# Altium schematic symbol library ROV_PCB_Lib.SchLib: 1 symbol
Pins are listed as number, name and electrical type; pins without a type are passive.

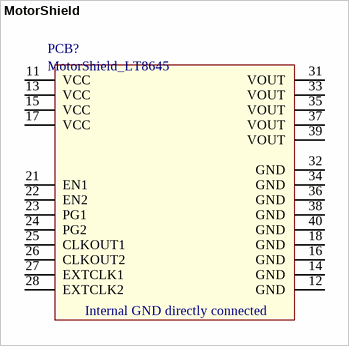
[diagram p0: symbol MotorShield]

## MotorShield
designator PCB?, comment MotorShield_LT8645
DCDC-8A / Spannung über beliebige Teiler
pins: 11 VCC, 12 GND, 13 VCC, 14 GND, 15 VCC, 16 GND, 17 VCC, 18 GND, 21 EN1, 22 EN2, 23 PG1, 24 PG2, 25 CLKOUT1, 26 CLKOUT2, 27 EXTCLK1, 28 EXTCLK2, 31 VOUT, 32 GND, 33 VOUT, 34 GND, 35 VOUT, 36 GND, 37 VOUT, 38 GND, 39 VOUT, 40 GND
text: Internal GND directly connected